# Altium footprint library DC_AC_Inverter.PcbLib: 18 footprints (part 2 of 2)
Each footprint in its own frame and in the unit in brackets; x right, y up, seen from the top. Pads: shape width x height; smd on the part's side, far side on the other; paste and mask are expansions set on the pad; w line width, h text height; cw(c..) or ccw(c..) is an arc to the next point about the centre after c.
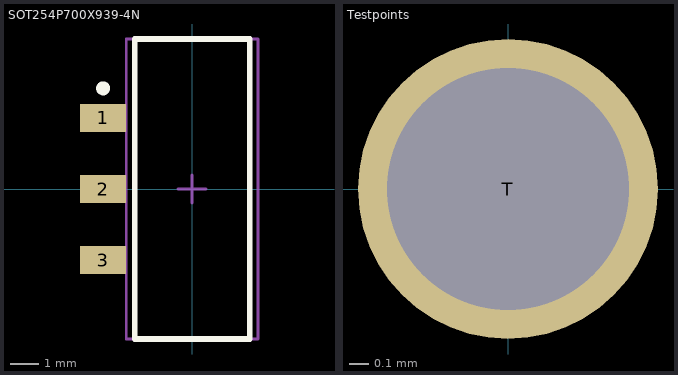
[diagram p1: the footprints below, top view; thin cyan lines are the x and y axes]

## SOT254P700X939-4N [mm] "SOT223, 4-Leads, Body 10.36x7.00mm (avg), Pitch 2.54mm, IPC Medium Density"
height 9.4
pads (3):
  rect 1.65x1 smd: 1(-3.175,2.54) 2(-3.175,0) 3(-3.175,-2.54)
Top Overlay:
  circle w0.25: c-3.175,3.59 r0.125
  lines w0.2: -2.05,-5.35 2.05,-5.35 2.05,5.35 -2.05,5.35 -2.05,-5.35
Mechanical 13:
  lines w0.1: -2.35,-5.345 2.35,-5.345 2.35,5.345 -2.35,5.345 -2.35,-5.345
Mechanical 15:
  lines w0.1: -0.5,0 0.5,0 ; 0,-0.5 0,0.5
3D body: height 12.17, standoff 9.4, extent -2.35,-5.345 2.35,5.345

## Testpoints [mm]
pads (1):
  round 1.55 hole 1.25: T(0,0)